# Altium schematic symbol library P89V51RD2FBC.SchLib: 1 symbol
Pins are listed as number, name and electrical type; pins without a type are passive.

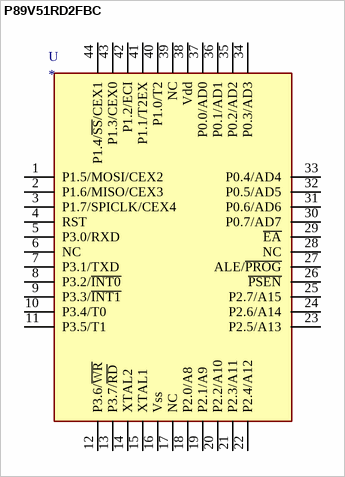
[diagram p0: symbol P89V51RD2FBC]

## P89V51RD2FBC
designator U
datasheet: https://www.nxp.com/docs/en/data-sheet/P89V51RB2_RC2_RD2.pdf
footprint TQFP-44
pins: 1 P1.5/MOSI/CEX2, 2 P1.6/MISO/CEX3, 3 P1.7/SPICLK/CEX4, 4 RST, 5 P3.0/RXD, 6 NC, 7 P3.1/TXD, 8 P3.2/~{INT0}, 9 P3.3/~{INT1}, 10 P3.4/T0, 11 P3.5/T1, 12 P3.6/~{WR}, 13 P3.7/~{RD}, 14 XTAL2, 15 XTAL1, 16 Vss, 17 NC, 18 P2.0/A8, 19 P2.1/A9, 20 P2.2/A10, 21 P2.3/A11, 22 P2.4/A12, 23 P2.5/A13, 24 P2.6/A14, 25 P2.7/A15, 26 ~{PSEN}, 27 ALE/~{PROG}, 28 NC, 29 ~{EA}, 30 P0.7/AD7, 31 P0.6/AD6, 32 P0.5/AD5, 33 P0.4/AD4, 34 P0.3/AD3, 35 P0.2/AD2, 36 P0.1/AD1, 37 P0.0/AD0, 38 Vdd, 39 NC, 40 P1.0/T2, 41 P1.1/T2EX, 42 P1.2/ECI, 43 P1.3/CEX0, 44 P1.4/~{SS}/CEX1